# Altium integrated library 1N5822.IntLib: 1 symbol
Pins are listed as number, name and electrical type; pins without a type are passive.

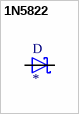
[diagram p0: symbol 1N5822]

## 1N5822
designator D
Diode Schottky 40V 3A Through Hole; MP: 1N5822; MF: ON Semiconductor; Package: DO-201AD-201 Panjit; Value: *; SnapEDA_Link: https://www.snapeda.com/parts/1N5822/ON%20Semiconductor/view-part/1356736/?ref=snap; Price: None; Availability: Unavailable
footprint DIOAD2120W130L950D530P
pins: A, C